# EAGLE library part OPA197I (library EW_IC_Op_Amps)
OP AMP
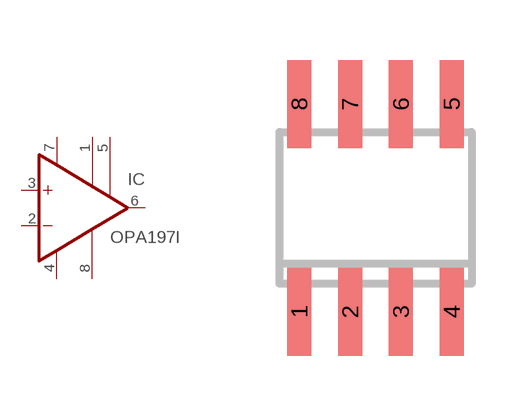
[diagram p0: symbol with the pads of SO08; footprint SO08]

Designator prefix IC

## OPA197ID (AVAILABILITY: Unavailable; DESCRIPTION: this device is a low-cost high-speed jfet-input operational amplifier with very low input offset voltage and a maximu...; MF: Texas Instruments; MP: LF411; PACKAGE: PDIP-8 Texas Instruments; PRICE: None)  [SO08]
1  NC1  pas
2  -IN  in
3  +IN  in
4  V-  pwr
5  NC2  pas
6  OUT  out
7  V+  pwr
8  NC3  pas

## Footprint SO08 (pad centres in mm)
Small Outline Package 8 NS Package M08A
smd 0.6 x 2.2: 1 -1.905,-2.6; 2 -0.635,-2.6; 3 0.635,-2.6; 4 1.905,-2.6; 5 1.905,2.6; 6 0.635,2.6; 7 -0.635,2.6; 8 -1.905,2.6